# Altium schematic symbol library LC29H.SchLib: 1 symbol
Pins are listed as number, name and electrical type; pins without a type are passive.

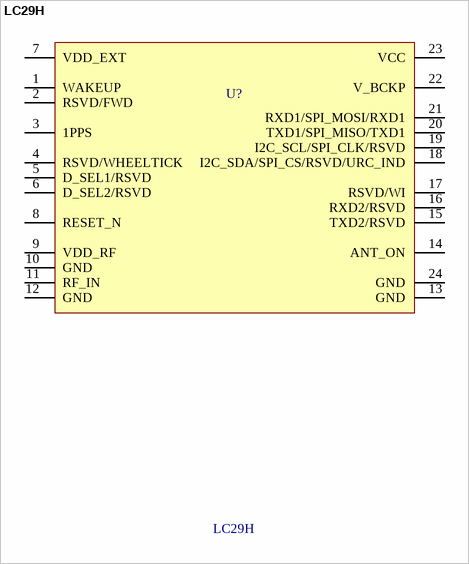
[diagram p0: symbol LC29H]

## LC29H
designator U?
GNSS MODULE LC29H Series LCC24 12.2x16.0mm H2.7mm RO; Manufacturer: QUECTEL; Geometry.Height: 2.7mm; Part Description: GNSS MODULE LC29H Series LCC24 12.2x16.0mm H2.7mm RO; Value: LC29H
footprint LC29H (GNSS MODULE LC29H Series LCC24 12.2x16.0mm H2.7mm RO)
pins: 1 WAKEUP, 2 RSVD/FWD, 3 1PPS, 4 RSVD/WHEELTICK, 5 D_SEL1/RSVD, 6 D_SEL2/RSVD, 7 VDD_EXT, 8 RESET_N, 9 VDD_RF, 10 GND, 11 RF_IN, 12 GND, 13 GND, 14 ANT_ON, 15 TXD2/RSVD, 16 RXD2/RSVD, 17 RSVD/WI, 18 I2C_SDA/SPI_CS/RSVD/URC_IND, 19 I2C_SCL/SPI_CLK/RSVD, 20 TXD1/SPI_MISO/TXD1, 21 RXD1/SPI_MOSI/RXD1, 22 V_BCKP, 23 VCC, 24 GND